# Altium integrated library WD Peripheral FD Data Sep-Seq.IntLib: 5 symbols
Pins are listed as number, name and electrical type; pins without a type are passive.

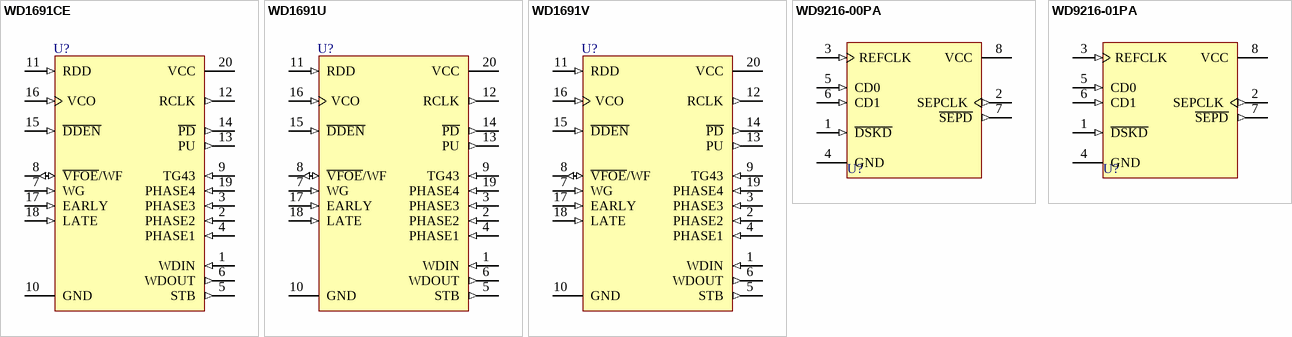
[diagram p0: symbols WD1691CE to WD9216-01PA]

## WD1691CE
designator U?
Floppy Support Logic; PackageDocument: 1984; Published: 8-Jun-2000; LatestRevisionDate: 4-Mar-2005; LatestRevisionNote: Stylized 3D Model Added.; DatasheetDocument: 1984; PackageReference: CE20; Publisher: Altium Limited; ComponentLink1Description: Manufacturer Link; ComponentLink1URL: http://www.wdc.com/
footprint CE20 (DIP; 20 Leads; Row Spacing 7.62 mm; Pitch 2.54 mm)
3D model CE20 (DIP; 20 Leads; Row Spacing 7.62 mm; Pitch 2.54 mm)
pins: 1 WDIN (in), 2 PHASE2 (in), 3 PHASE3 (in), 4 PHASE1 (in), 5 STB (out), 6 WDOUT (out), 7 WG (in), 8 ~{VFOE}/WF (io), 9 TG43 (in), 10 GND (power), 11 RDD (in), 12 RCLK (out), 13 PU (out), 14 ~{PD} (out), 15 ~{DDEN} (in), 16 VCO (in), 17 EARLY (in), 18 LATE (in), 19 PHASE4 (in), 20 VCC (power)

## WD1691U
designator U?
Floppy Support Logic; PackageDocument: 1984; Published: 8-Jun-2000; LatestRevisionDate: 4-Mar-2005; LatestRevisionNote: Stylized 3D Model Added.; DatasheetDocument: 1984; PackageReference: U20; Publisher: Altium Limited; ComponentLink1Description: Manufacturer Link; ComponentLink1URL: http://www.wdc.com/; Code_JEDEC: MS-015-AE
footprint U20 (DIP; 20 Leads; Row Spacing 7.62 mm; Pitch 2.54 mm)
3D model U20 (DIP; 20 Leads; Row Spacing 7.62 mm; Pitch 2.54 mm)
pins: 1 WDIN (in), 2 PHASE2 (in), 3 PHASE3 (in), 4 PHASE1 (in), 5 STB (out), 6 WDOUT (out), 7 WG (in), 8 ~{VFOE}/WF (io), 9 TG43 (in), 10 GND (power), 11 RDD (in), 12 RCLK (out), 13 PU (out), 14 ~{PD} (out), 15 ~{DDEN} (in), 16 VCO (in), 17 EARLY (in), 18 LATE (in), 19 PHASE4 (in), 20 VCC (power)

## WD1691V
designator U?
Floppy Support Logic; PackageDocument: 1984; Published: 8-Jun-2000; LatestRevisionDate: 4-Mar-2005; LatestRevisionNote: Stylized 3D Model Added.; DatasheetDocument: 1984; PackageReference: V20; Publisher: Altium Limited; ComponentLink1Description: Manufacturer Link; ComponentLink1URL: http://www.wdc.com/; Code_JEDEC: MS-001-AD
footprint V20 (DIP; 20 Leads; Row Spacing 7.62 mm; Pitch 2.54 mm)
3D model V20 (DIP; 20 Leads; Row Spacing 7.62 mm; Pitch 2.54 mm)
pins: 1 WDIN (in), 2 PHASE2 (in), 3 PHASE3 (in), 4 PHASE1 (in), 5 STB (out), 6 WDOUT (out), 7 WG (in), 8 ~{VFOE}/WF (io), 9 TG43 (in), 10 GND (power), 11 RDD (in), 12 RCLK (out), 13 PU (out), 14 ~{PD} (out), 15 ~{DDEN} (in), 16 VCO (in), 17 EARLY (in), 18 LATE (in), 19 PHASE4 (in), 20 VCC (power)

## WD9216-00PA
designator U?
Floppy Disk Data Separator; PackageDocument: 1986; Published: 8-Jun-2000; LatestRevisionDate: 17-Jul-2002; LatestRevisionNote: Re-released for DXP Platform.; DatasheetDocument: 1984; PackageReference: PA8; Publisher: Altium Limited; ComponentLink1Description: Manufacturer Link; ComponentLink1URL: http://www.wdc.com/
footprint PA8 (DIP; 8 Leads; Row Spacing 7.62 mm; Pitch 2.54 mm)
pins: 1 ~{DSKD} (in), 2 SEPCLK (out), 3 REFCLK (in), 4 GND (power), 5 CD0 (in), 6 CD1 (in), 7 ~{SEPD} (out), 8 VCC (power)

## WD9216-01PA
designator U?
Floppy Disk Data Separator; PackageDocument: 1986; Published: 8-Jun-2000; LatestRevisionDate: 17-Jul-2002; LatestRevisionNote: Re-released for DXP Platform.; DatasheetDocument: 1984; PackageReference: PA8; Publisher: Altium Limited; ComponentLink1Description: Manufacturer Link; ComponentLink1URL: http://www.wdc.com/
footprint PA8 (DIP; 8 Leads; Row Spacing 7.62 mm; Pitch 2.54 mm)
pins: 1 ~{DSKD} (in), 2 SEPCLK (out), 3 REFCLK (in), 4 GND (power), 5 CD0 (in), 6 CD1 (in), 7 ~{SEPD} (out), 8 VCC (power)